# Altium schematic symbol library SM74611.Schlib: 1 symbol
Pins are listed as number, name and electrical type; pins without a type are passive.

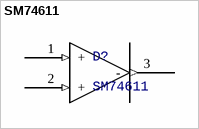
[diagram p0: symbol SM74611]

## SM74611
designator D?
PV Diode
footprint TO254P1435X464-3N
pins: 1 + (in), 2 + (in), 3 - (out)